# Altium footprint library buck_boost.PcbLib: 15 footprints
Each footprint in its own frame and in the unit in brackets; x right, y up, seen from the top. Pads: shape width x height; smd on the part's side, far side on the other; paste and mask are expansions set on the pad; w line width, h text height; cw(c..) or ccw(c..) is an arc to the next point about the centre after c.
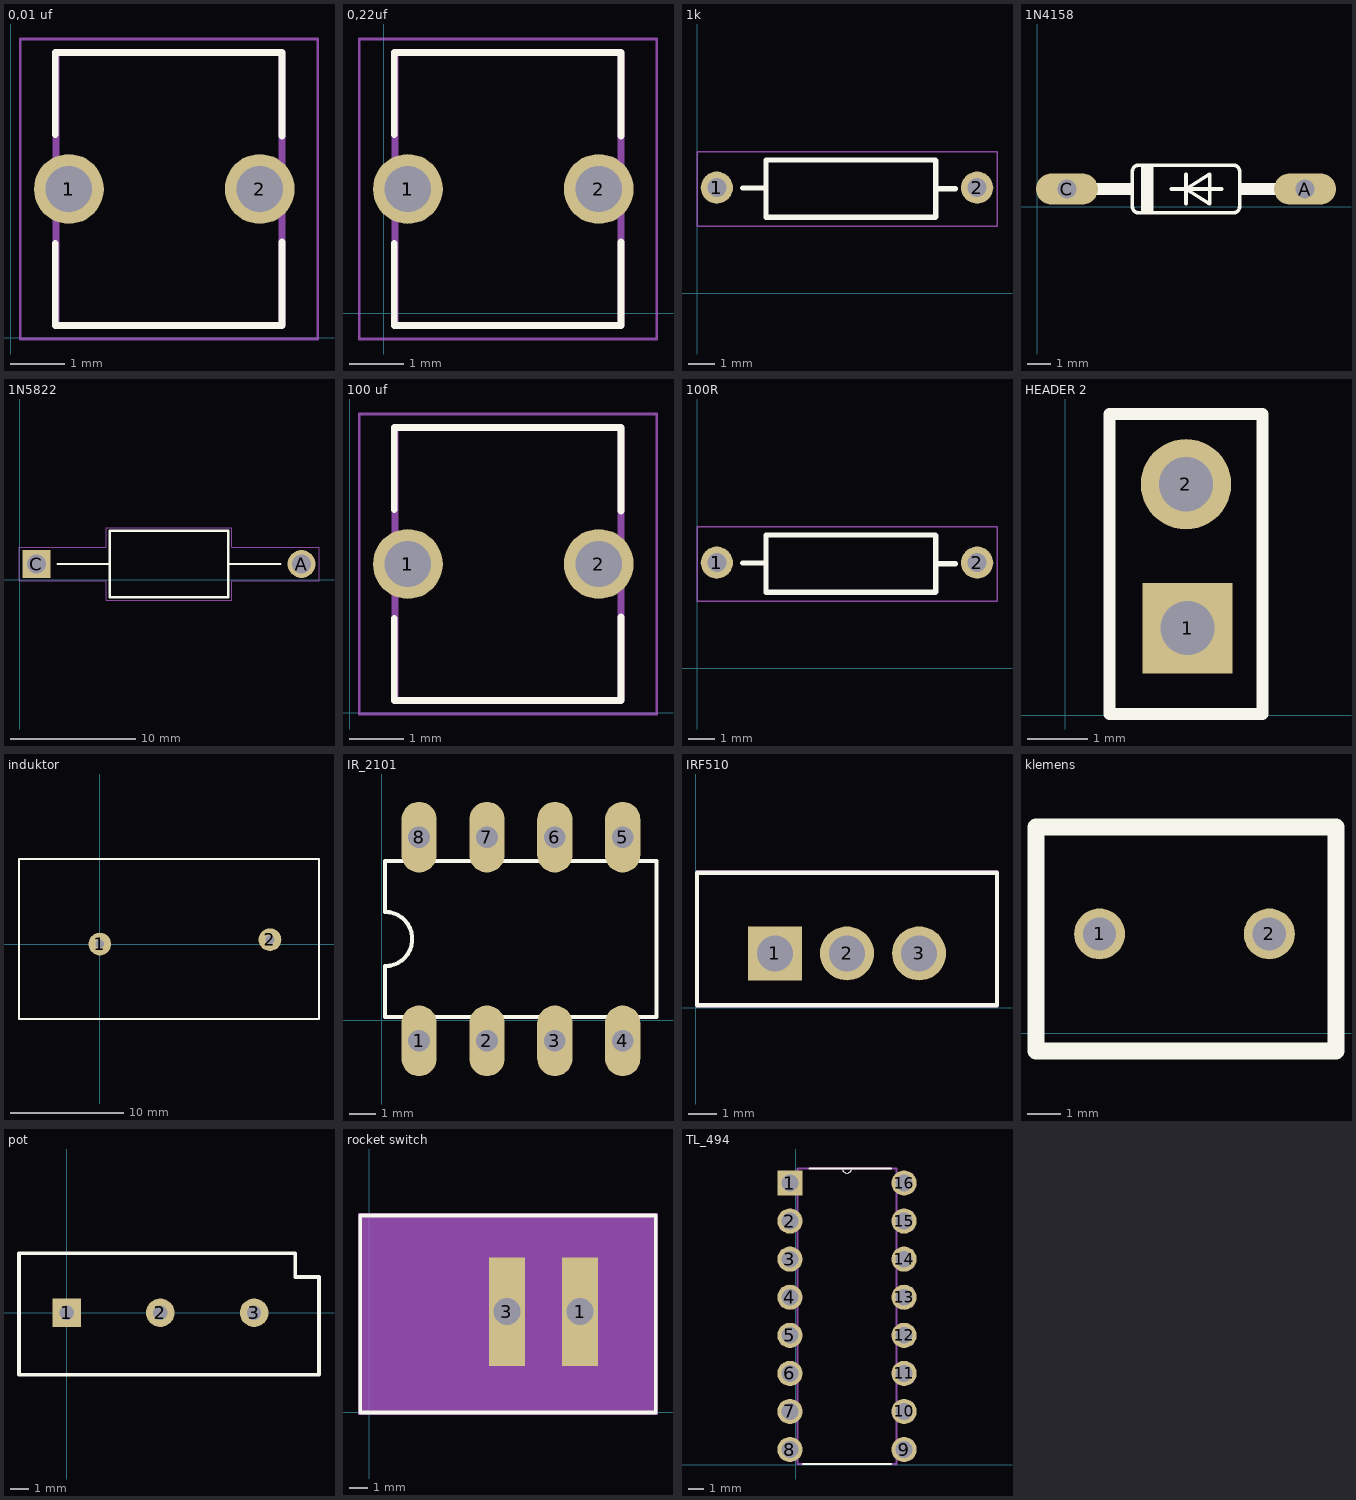
[diagram p0: the footprints below, top view; thin cyan lines are the x and y axes]

## 0,01 uf [mm]
pads (5):
  round 1.28 hole 0.85: 1(1.064,2.728) 1(1.064,2.728) 1(1.064,2.728) 1(1.064,2.728) 2(4.564,2.728)
Top Overlay:
  lines w0.127: 0.814,1.728 0.814,0.228 4.975,0.228 4.975,1.753 ; 0.814,3.728 0.814,5.228 4.975,5.228 4.975,3.703
Mechanical 13:
  lines w0.127: 0.825,0.228 4.975,0.228 4.975,5.228 0.825,5.228 0.825,0.228
Mechanical 15:
  lines w0.05: 0.174,-0.022 5.625,-0.022 5.625,5.478 0.174,5.478 0.174,-0.022
3D body "r82ec2100aa50j.stp": height 6.6, standoff -5.5, extent -0.762,1.625 6.638,4.23

## 0,22uf [mm]
pads (5):
  round 1.28 hole 0.85: 1(0.439,2.278) 1(0.439,2.278) 1(0.439,2.278) 1(0.439,2.278) 2(3.939,2.278)
Top Overlay:
  lines w0.127: 0.189,1.278 0.189,-0.222 4.35,-0.222 4.35,1.303 ; 0.189,3.278 0.189,4.778 4.35,4.778 4.35,3.253
Mechanical 13:
  lines w0.127: 0.2,-0.222 4.35,-0.222 4.35,4.778 0.2,4.778 0.2,-0.222
Mechanical 15:
  lines w0.05: -0.451,-0.472 5,-0.472 5,5.028 -0.451,5.028 -0.451,-0.472
3D body "C22_D_3.5mm_P3mm.STEP": height 3.75, standoff -2, extent 0.5,1.157 4,3.2

## 1k [mil]
pads (3):
  round 48.74 hole 28.74: 1(30,160) 1(30,160) 2(423.7,160)
Top Overlay:
  lines w7.87: 68.9,159.45 104.33,159.45 ; 361.22,158.46 390.75,158.46 ; 104.33,159.45 104.33,201.77 360.24,201.77 361.22,200.79 361.22,116.14 360.24,115.16 104.33,115.16 104.33,159.45
Mechanical 15:
  lines w1.97: 0,101.38 453.74,101.38 453.74,214.57 0,214.57 0,101.38
3D body "R1K.STEP": height 83.07, standoff -157.48, extent 14.56,118.11 434.25,205.51

## 1N4158 [mil]
pads (2):
  oval 104x52 hole 32: A(450,30) C(50,30)
Top Overlay:
  region: 175,70 195,70 195,-10 175,-10
  region: 340,40 415,40 415,20 340,20
  region: 85,40 160,40 160,20 85,20
  lines w6: 225,30 250,30 ; 250,5 250,30 ; 250,55 250,30 ; 310,30 250,30 ; 250,30 290,5 290,55 250,30 ; 160,0 ccw(c170,0) 170,-10 330,-10 ccw(c330,0) 340,0 340,60 ccw(c330,60) 330,70 170,70 ccw(c170,60) 160,60 160,0
Mechanical 4:
  lines w10: 50,30 85,30 50,30 ; 415,30 450,30 415,30
3D body "CircuitWorks-DIODE0_4.STEP": height 100.5, standoff -100, extent 40,-20.5 470,80.5

## 1N5822 [mm]
pads (2):
  round 2.25 hole 1.5: A(22.538,1.27)
  rect 2.25x2.25 hole 1.5: C(1.338,1.27)
Top Overlay:
  lines w0.2: 3.048,1.27 7.138,1.27 ; 16.738,1.27 20.828,1.27 ; 7.188,-1.38 7.188,3.92 16.688,3.92 16.688,-1.38 7.188,-1.38
Mechanical 15:
  lines w0.05: -0.062,-0.08 6.938,-0.08 6.938,-1.63 16.938,-1.63 16.938,-0.08 23.938,-0.08 23.938,2.62 16.938,2.62 16.938,4.17 6.938,4.17 6.938,2.62 -0.062,2.62 -0.062,-0.08
3D body "1N5822.step": height 2.64, standoff -5.97, extent 2.448,-1.464 21.428,3.556

## 100 uf [mm]
pads (5):
  round 1.28 hole 0.85: 1(1.064,2.728) 1(1.064,2.728) 1(1.064,2.728) 1(1.064,2.728) 2(4.564,2.728)
Top Overlay:
  lines w0.127: 0.814,1.728 0.814,0.228 4.975,0.228 4.975,1.753 ; 0.814,3.728 0.814,5.228 4.975,5.228 4.975,3.703
Mechanical 13:
  lines w0.127: 0.825,0.228 0.825,5.228 4.975,5.228 4.975,0.228 0.825,0.228
Mechanical 15:
  lines w0.05: 0.174,-0.022 0.174,5.478 5.625,5.478 5.625,-0.022 0.174,-0.022
3D body "User Library-UVR1E101MED-100uf 25V-1.step": height 11, standoff -2.5, extent -0.4,-0.5 5.9,5.8

## 100R [mil]
pads (3):
  round 48.74 hole 28.74: 1(30,160) 1(30,160) 2(423.7,160)
Top Overlay:
  lines w7.87: 68.9,159.45 104.33,159.45 ; 361.22,158.46 390.75,158.46 ; 104.33,159.45 104.33,115.16 360.24,115.16 361.22,116.14 361.22,200.79 360.24,201.77 104.33,201.77 104.33,159.45
Mechanical 15:
  lines w1.97: 0,101.38 0,214.57 453.74,214.57 453.74,101.38 0,101.38
3D body "User Library-Res50-Axial 0_5W-100R.step": height 93.5, standoff -275.59, extent -39.76,90 489.77,237.64

## HEADER 2 [mm]
pads (2):
  rect 1.5x1.5 hole 0.9: 1(2.031,1.448)
  round 1.5 hole 0.9: 2(2.006,3.833)
Top Overlay:
  lines w0.2: 0.736,0.023 0.736,4.998 3.276,4.998 3.276,0.023 0.736,0.023
3D body "header 2.stp": height 8.89, standoff -3.05, extent 0.761,0.098 3.301,5.178

## induktor [mil]
pads (2):
  round 78.74 hole 30: 1(0,0) 2(590,15)
Top Overlay:
  lines w7.87: -280,-260 -280,295 760,295 760,-260 -280,-260
3D body "User Library-TP223 PFC inductor.step": height 1686.53, standoff -945.81, extent -790,-344.55 1650.42,334.55

## IR_2101 [mil]
pads (8):
  oval 52x104 hole 32: 1(55,-30) 2(155,-30) 3(255,-30) 4(355,-30) 5(355,270) 6(255,270) 7(155,270) 8(55,270)
Top Overlay:
  lines w6: 5,5 405,5 405,235 5,235 5,160 cw(c5,120) 5,80 5,5
3D body "pdip8_p2-54x7-62_l10-16_w6-4.stp": height 169.69, standoff -146.06, extent 10,-43.86 410,265.99

## IRF510 [mil]
pads (3):
  rect 75x75 hole 50: 1(110,75)
  round 75 hole 50: 2(210,75) 3(310,75)
Top Overlay:
  lines w6: 2,3 2,187 418,187 418,3 2,3
Mechanical 4:
  lines w6: 2,3 2,187 ; 2,3 418,3 ; 2,3 2,187 ; 2,3 418,3 ; 2,187 418,187 ; 2,187 418,187 ; 418,3 418,187 ; 418,3 418,187
3D body "TO 220_BTA16.STEP": height 612.61, standoff -521.25, extent 8.43,6.42 410,183.58

## klemens [mil]
pads (2):
  round 60 hole 39.37: 1(123.9,117.05) 2(323.9,117.05)
Top Overlay:
  lines w19.68: 49.09,-20.75 49.09,243.03 402.44,243.03 402.44,-20.75 49.09,-20.75
3D body "tb5p-2p_p5_l10_w7-6_h10.stp": height 393.7, standoff -161.42, extent 5.8,-4.01 423.12,295.2

## pot [mil]
pads (3):
  rect 60x60 hole 30: 1(0,0)
  round 60 hole 30: 2(196.85,0) 3(393.7,0)
Top Overlay:
  lines w7.87: -100,-130 -100,125 480,125 480,75 530,75 530,-130 -100,-130
3D body "P160NK.STEP": height 807.09, standoff -177.17, extent -124.65,-230 544.64,734.56

## rocket switch [mm]
pads (2):
  rect 2x6 hole 1.5: 1(11.684,5.588) 3(7.62,5.588)
Top Overlay:
  lines w0.2: -0.508,0 15.875,0 15.875,10.922 -0.508,10.922 -0.508,0
Mechanical 1:
  region: 0.127,10.461 15.24,10.461 15.24,0.508 0.127,0.508
Mechanical 16:
  region: -0.635,11.049 16.002,11.049 16.002,-0.127 -0.635,-0.127
3D body "10x15mm SPST 2pin on_off G130 Boat Rocker Switch 3A-250V.SLDPRT": height 5.15, standoff -15, extent 0.12,0.461 15.12,10.461

## TL_494 [mil]
pads (16):
  rect 66x66 hole 44: 1(-15,740)
  round 66 hole 44: 2(-15,640) 3(-15,540) 4(-15,440) 5(-15,340) 6(-15,240) 7(-15,140) 8(-15,40) 9(285,40) 10(285,140) 11(285,240) 12(285,340) 13(285,440) 14(285,540) 15(285,640) 16(285,740)
Top Overlay:
  lines w0: 123,778 ccw(c135,778) 147,778
  lines w6: 20,2 250,2 ; 37,778 123,778 147,778 250,778
Mechanical 13:
  lines w0: 123,778 ccw(c135,778) 147,778
  lines w6: -37,18 -37,62 5,62 5,18 -37,18 ; -37,118 -37,162 5,162 5,118 -37,118 ; -37,218 -37,262 5,262 5,218 -37,218 ; -37,318 -37,362 5,362 5,318 -37,318 ; -37,418 -37,462 5,462 5,418 -37,418 ; -37,518 -37,562 5,562 5,518 -37,518 ; -37,618 -37,662 5,662 5,618 -37,618 ; -37,718 -37,762 5,762 5,718 -37,718 ; 5,2 265,2 265,778 147,778 123,778 5,778 5,2 ; 265,18 265,62 307,62 307,18 265,18 ; 265,118 265,162 307,162 307,118 265,118 ; 265,218 265,262 307,262 307,218 265,218 ; 265,318 265,362 307,362 307,318 265,318 ; 265,418 265,462 307,462 307,418 265,418 ; 265,518 265,562 307,562 307,518 265,518 ; 265,618 265,662 307,662 307,618 265,618 ; 265,718 265,762 307,762 307,718 265,718
3D body "CircuitWorks-DIP16.step": height 165, standoff -101, extent -25,-40 285,810